# Altium schematic symbol library gpa_ti.SchLib: 13 symbols
Pins are listed as number, name and electrical type; pins without a type are passive.

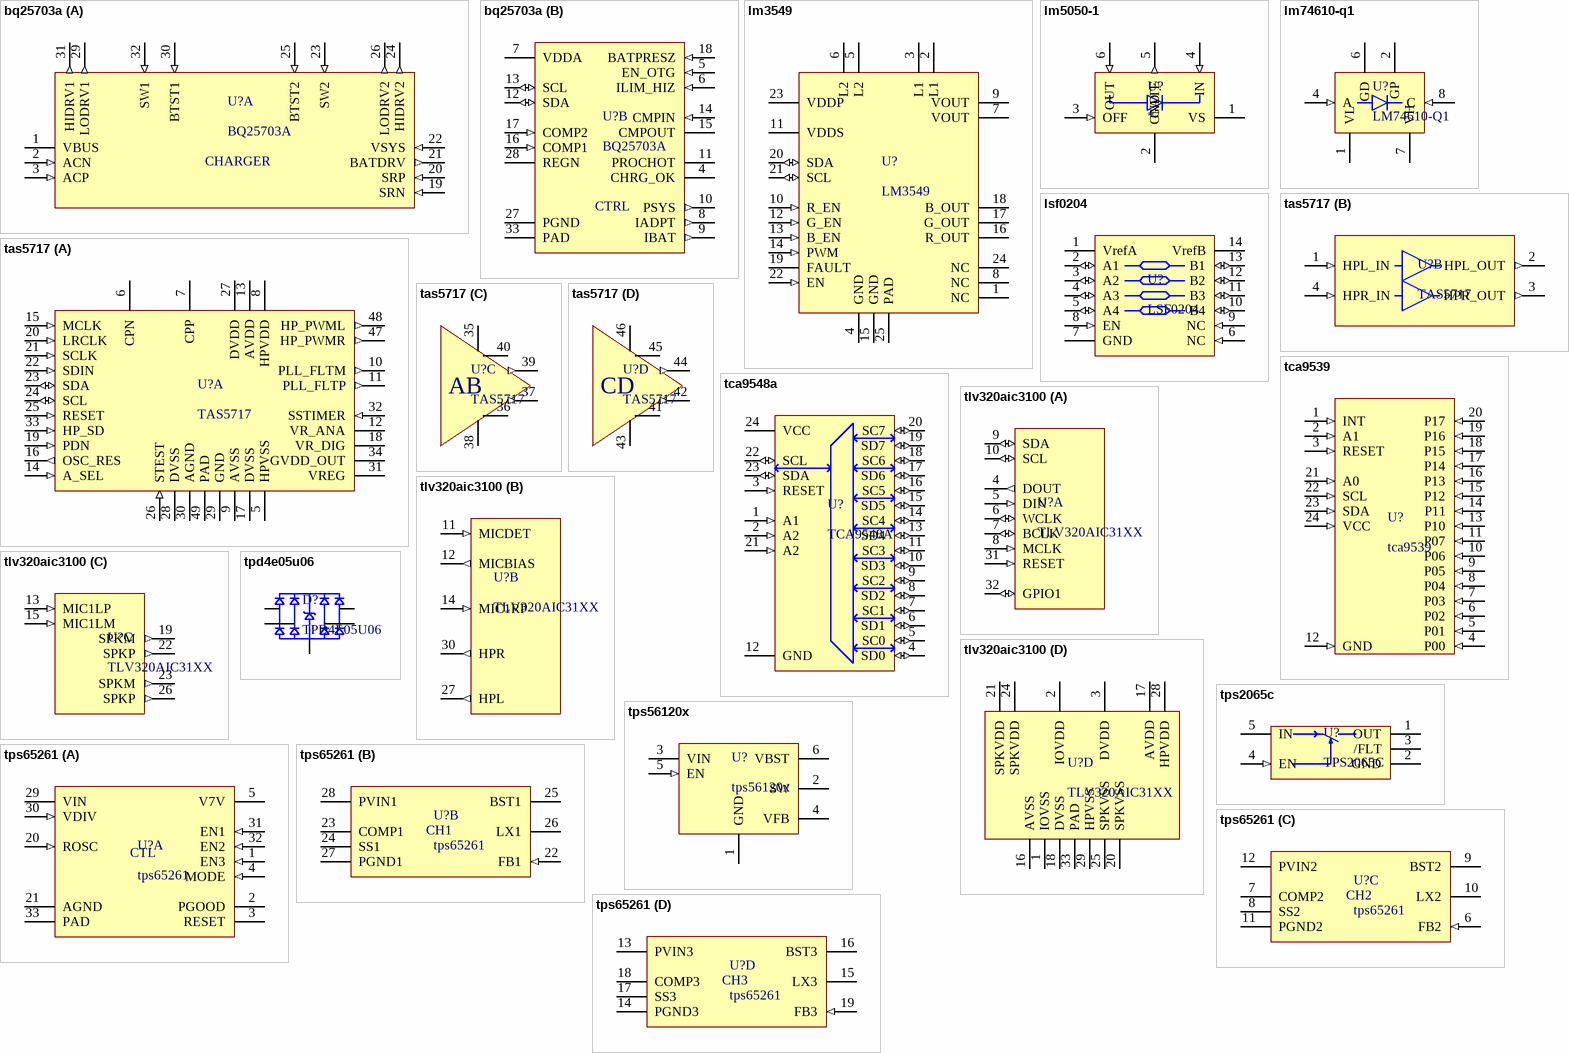
[diagram p0: symbols bq25703a to tps65261]

## bq25703a
designator U?, comment BQ25703A
footprint TI_QFN40P400X400X80_HS-33M (QFN, 32-Leads, Body 4.00x4.00mm, Pitch 0.40mm, Thermal Pad 2.80x2.80mm, IPC Low Density)
part A pins: 1 VBUS (power), 2 ACN (in), 3 ACP (in), 19 SRN (in), 20 SRP (in), 21 BATDRV (out), 22 VSYS (in), 23 SW2 (in), 24 HIDRV2 (out), 25 BTST2 (in), 26 LODRV2 (out), 29 LODRV1 (out), 30 BTST1 (in), 31 HIDRV1 (out), 32 SW1 (in)
part B pins: 4 CHRG_OK (oc), 5 EN_OTG (in), 6 ILIM_HIZ (in), 7 VDDA (power), 8 IADPT (out), 9 IBAT (out), 10 PSYS (out), 11 PROCHOT (oc), 12 SDA (io), 13 SCL (io), 14 CMPIN (in), 15 CMPOUT (oc), 16 COMP1 (in), 17 COMP2 (in), 18 BATPRESZ (in), 27 PGND (power), 28 REGN (power), 33 PAD (power)
part A text: CHARGER
part B text: CTRL

## lm3549
designator U?, comment LM3549
footprint TI_QFN50P400X400X80_HS-25M (QFN, 24-Leads, Body 4.00x4.00mm, Pitch 0.50mm, Thermal Pad 2.60x2.60mm, IPC Low Density)
pins: 1 NC, 2 L1 (power), 3 L1 (power), 4 GND (power), 5 L2 (power), 6 L2 (power), 7 VOUT (power), 8 NC, 9 VOUT (power), 10 R_EN (in), 11 VDDS (power), 12 G_EN (in), 13 B_EN (in), 14 PWM (in), 15 GND (power), 16 R_OUT (oe), 17 G_OUT (oe), 18 B_OUT (oe), 19 FAULT (oc), 20 SDA (io), 21 SCL (io), 22 EN (in), 23 VDDP (power), 24 NC, 25 PAD (power)

## lm5050-1
designator U?
footprint TI_SOT95P280X110-6N (SOT23, 6-Leads, Body 2.90x2.80mm, Pitch 0.95mm, IPC Medium Density)
pins: 1 VS (power), 2 GND (power), 3 OFF (in), 4 IN (in), 5 GATE (out), 6 OUT (in)

## lm74610-q1
designator U?, comment LM74610-Q1
pins: 1 VL, 2 GP, 4 A (in), 6 GD, 7 VH, 8 C (in)

## lsf0204
designator U?, comment LSF0204
footprint TI_TSOP65P640X120-14N (TSOP, 14-Leads, Body 5.00x4.40mm, Pitch 0.65mm, IPC Medium Density)
pins: 1 VrefA (power), 2 A1 (io), 3 A2 (io), 4 A3 (io), 5 A4 (io), 6 NC (in), 7 GND (power), 8 EN (in), 9 NC (in), 10 B4 (io), 11 B3 (io), 12 B2 (io), 13 B1 (io), 14 VrefB (power)

## tas5717
designator U?, comment TAS5717
footprint TI_TSQFP50P900X900X105_HS-49N (TSQFP, 48-Leads, Body 7.00x7.00mm, Pitch 0.50mm, Thermal Pad 5.17x4.04mm, IPC Medium Density)
part A pins: 5 HPVSS (power), 6 CPN (power), 7 CPP (power), 8 HPVDD (power), 9 AVSS (power), 10 PLL_FLTM (out), 11 PLL_FLTP (out), 12 VR_ANA (power), 13 AVDD (power), 14 A_SEL (in), 15 MCLK (in), 16 OSC_RES (out), 17 DVSS (power), 18 VR_DIG (power), 19 PDN (in), 20 LRCLK (in), 21 SCLK (in), 22 SDIN (in), 23 SDA (io), 24 SCL (io), 25 RESET (in), 26 STEST (in), 27 DVDD (power), 28 DVSS (power), 29 GND (power), 30 AGND (power), 31 VREG (power), 32 SSTIMER (in), 33 HP_SD (in), 34 GVDD_OUT (power), 47 HP_PWMR (out), 48 HP_PWML (out), 49 PAD (power)
part B pins: 1 HPL_IN (in), 2 HPL_OUT (out), 3 HPR_OUT (out), 4 HPR_IN (in)
part C pins: 35 PVDD_CD (power), 36 BST_D (power), 37 OUT_D (out), 38 PGND_CD (power), 39 OUT_C (out), 40 BST_C (power)
part D pins: 41 BST_B (power), 42 OUT_B (out), 43 PGND_AB (power), 44 OUT_A (out), 45 BST_A (power), 46 PVDD_AB (power)
part C text: AB
part D text: CD

## tca9539
designator U?
footprint TI_TSOP65P640X120-24N (TSOP, 24-Leads, Body 7.80x4.40mm, Pitch 0.65mm, IPC Medium Density)
pins: 1 INT (in), 2 A1 (in), 3 RESET (in), 4 P00 (in), 5 P01 (in), 6 P02 (in), 7 P03 (in), 8 P04 (in), 9 P05 (in), 10 P06 (in), 11 P07 (in), 12 GND (in), 13 P10 (in), 14 P11 (in), 15 P12 (in), 16 P13 (in), 17 P14 (in), 18 P15 (in), 19 P16 (in), 20 P17 (in), 21 A0 (in), 22 SCL (in), 23 SDA (in), 24 VCC (in)

## tca9548a
designator U?, comment TCA9548A
footprint TI_TSOP65P640X120-24N (TSOP, 24-Leads, Body 7.80x4.40mm, Pitch 0.65mm, IPC Medium Density)
pins: 1 A1 (in), 2 A2 (in), 3 RESET (in), 4 SD0 (io), 5 SC0 (io), 6 SD1 (io), 7 SC1 (io), 8 SD2 (io), 9 SC2 (io), 10 SD3 (io), 11 SC3 (io), 12 GND (power), 13 SD4 (io), 14 SC4 (io), 15 SD5 (io), 16 SC5 (io), 17 SD6 (io), 18 SC6 (io), 19 SD7 (io), 20 SC7 (io), 21 A2 (in), 22 SCL (io), 23 SDA (io), 24 VCC (power)

## tlv320aic3100
designator U?, comment TLV320AIC31XX
footprint TI_QFN50P500X500X100_HS-33M (QFN, 32-Leads, Body 5.00x5.00mm, Pitch 0.50mm, Thermal Pad 3.45x3.45mm, IPC Low Density)
part A pins: 4 DOUT (out), 5 DIN (in), 6 WCLK (io), 7 BCLK (io), 8 MCLK (in), 9 SDA (io), 10 SCL (io), 31 RESET (in), 32 GPIO1 (io)
part B pins: 11 MICDET (in), 12 MICBIAS (out), 14 MIC1RP (in), 27 HPL (out), 30 HPR (out)
part C pins: 13 MIC1LP (in), 15 MIC1LM (in), 19 SPKM (out), 22 SPKP (out), 23 SPKM (out), 26 SPKP (out)
part D pins: 1 IOVSS (power), 2 IOVDD (power), 3 DVDD (power), 16 AVSS (power), 17 AVDD (power), 18 DVSS (power), 20 SPKVSS (power), 21 SPKVDD (power), 24 SPKVDD (power), 25 SPKVSS (power), 28 HPVDD (power), 29 HPVSS (power), 33 PAD (power)

## tpd4e05u06
designator D?, comment TPD4E05U06
footprint TI_PSON50P100X55-10N (PSON, 10-Leads, Body 2.50x1.00mm, Pitch 0.50mm, IPC Medium Density)
pins: 1 D1+, 2 D1-, 3 GND, 4 D2-, 5 D2+

## tps2065c
designator U?, comment TPS2065C
footprint TI_SOT95P280X145-5N (SOT23, 5-Leads, Body 2.90x2.80mm, Pitch 0.95mm, IPC Medium Density)
pins: 1 OUT (power), 2 GND (power), 3 /FLT (oc), 4 EN (in), 5 IN (power)

## tps56120x
designator U?
footprint TI_SOT95P280X110-6N (SOT23, 6-Leads, Body 2.90x2.80mm, Pitch 0.95mm, IPC Medium Density)
pins: 1 GND (power), 2 SW (power), 3 VIN (power), 4 VFB, 5 EN (in), 6 VBST (power)

## tps65261
designator U?
footprint TI_QFN50P500X500X100_HS-33M (QFN, 32-Leads, Body 5.00x5.00mm, Pitch 0.50mm, Thermal Pad 3.45x3.45mm, IPC Low Density)
part A pins: 1 EN3 (in), 2 PGOOD (oc), 3 RESET (oc), 4 MODE (in), 5 V7V (power), 20 ROSC (in), 21 AGND (power), 29 VIN (power), 30 VDIV (in), 31 EN1 (in), 32 EN2 (in), 33 PAD (power)
part B pins: 22 FB1 (in), 23 COMP1, 24 SS1, 25 BST1 (power), 26 LX1 (power), 27 PGND1 (power), 28 PVIN1 (power)
part C pins: 6 FB2 (in), 7 COMP2, 8 SS2, 9 BST2 (power), 10 LX2 (power), 11 PGND2 (power), 12 PVIN2 (power)
part D pins: 13 PVIN3 (power), 14 PGND3 (power), 15 LX3 (power), 16 BST3 (power), 17 SS3, 18 COMP3, 19 FB3 (in)
part A text: CTL
part B text: CH1
part C text: CH2
part D text: CH3